# Altium footprint library OLEDmodule1,3_.PcbLib: 1 footprints
Each footprint in its own frame and in the unit in brackets; x right, y up, seen from the top. Pads: shape width x height; smd on the part's side, far side on the other; paste and mask are expansions set on the pad; w line width, h text height; cw(c..) or ccw(c..) is an arc to the next point about the centre after c.
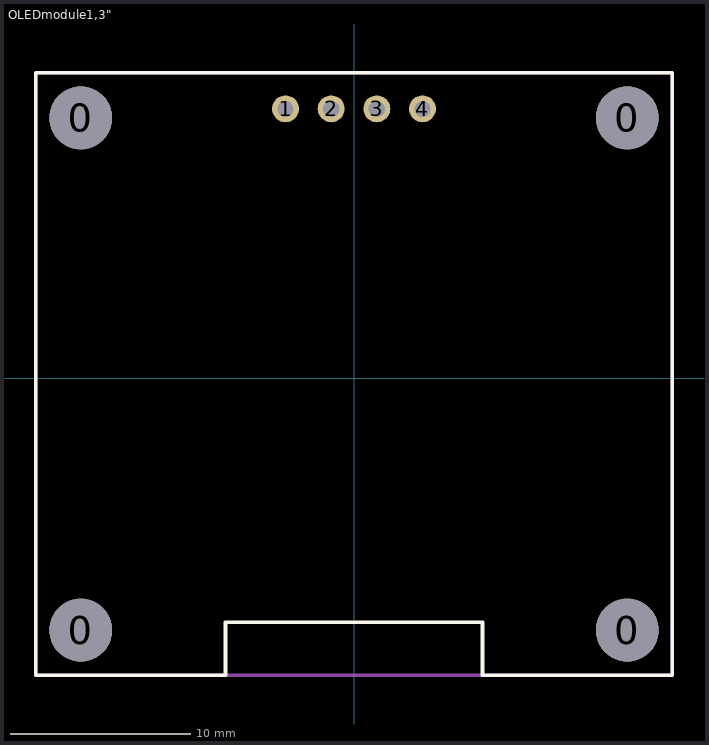
[diagram p0: the footprint, top view; thin cyan lines are the x and y axes]

## OLEDmodule1,3" [mm] "SSD1306 OLED Display"
pads (8):
  round 3.5 hole 3.5 unplated: 0(-15.2,-14) 0(-15.2,14.5) 0(15.2,-14) 0(15.2,14.5)
  round 1.5 hole 0.9: 1(-3.81,15) 2(-1.27,15) 3(1.27,15) 4(3.81,15)
Top Overlay:
  lines w0.2: 17.65,-16.5 7.15,-16.5 7.15,-13.55 -7.15,-13.55 -7.15,-16.5 -17.7,-16.5 -17.7,17 17.7,17 17.7,-16.5
Top 3D Body:
  lines w0.2: -17.7,-16.5 17.7,-16.5 17.7,17 -17.7,17 -17.7,-16.5
3D body "Geekcreit 1.3 Inch 4Pin.step": height 5.68, standoff -5.96, extent -17.7,-16.5 17.7,17